# EAGLE library part STM32F401RE (library stm32f401re)
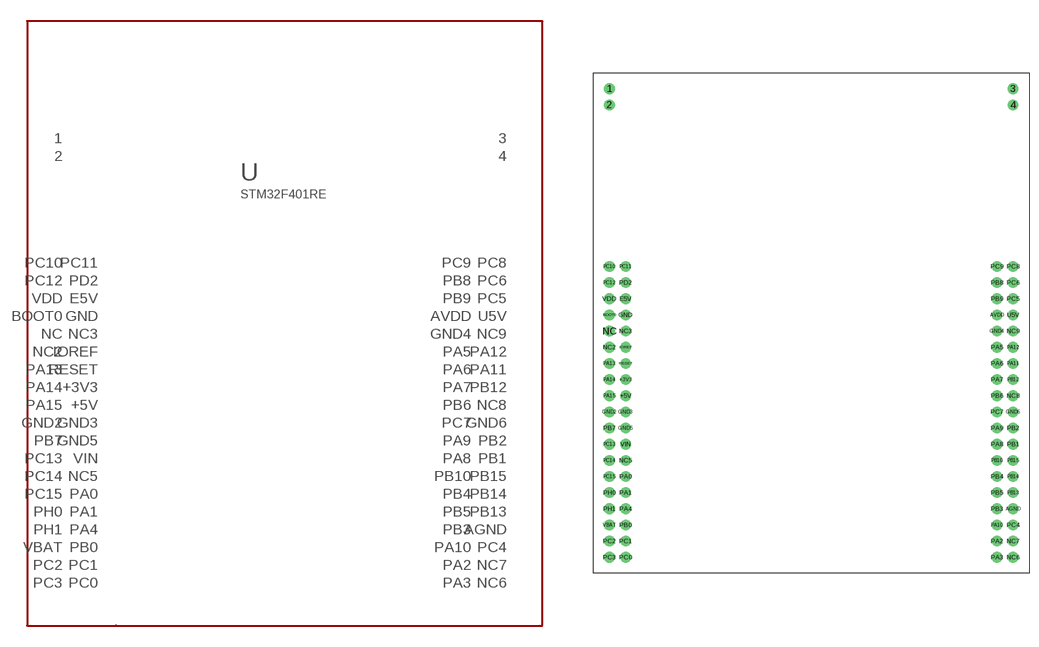
[diagram p0: symbol with the pads of STM32; footprint STM32]

Designator prefix -

## STM32F401RE  [STM32]
1  P$106
2  P$105
3  P$107
4  P$108
+3V3  P$30
+5V  P$29
AGND  P$58
AVDD  P$52
BOOT0  P$16
E5V  P$35
GND  P$34
GND2  P$10
GND3  P$28
GND4  P$51
GND5  P$27
GND6  P$64
IOREF  P$32
NC  P$15
NC2  P$14
NC3  P$33
NC5  P$25
NC6  P$55
NC7  P$56
NC8  P$65
NC9  P$69
PA0  P$24
PA1  P$23
PA2  P$38
PA3  P$37
PA4  P$22
PA5  P$50
PA6  P$49
PA7  P$48
PA8  P$44
PA9  P$45
PA10  P$39
PA11  P$67
PA12  P$68
PA13  P$13
PA14  P$12
PA15  P$11
PB0  P$21
PB1  P$62
PB2  P$63
PB3  P$40
PB4  P$42
PB5  P$41
PB6  P$47
PB7  P$9
PB8  P$54
PB9  P$53
PB10  P$43
PB12  P$66
PB13  P$59
PB14  P$60
PB15  P$61
PC0  P$19
PC1  P$20
PC2  P$2
PC3  P$1
PC4  P$57
PC5  P$71
PC6  P$72
PC7  P$46
PC8  P$76
PC9  P$75
PC10  P$73
PC11  P$74
PC12  P$18
PC13  P$8
PC14  P$7
PC15  P$6
PD2  P$36
PH0  P$5
PH1  P$4
RESET  P$31
U5V  P$70
VBAT  P$3
VDD  P$17
VIN  P$26

## Footprint STM32 (pad centres in mm)
drill 0.7 pad 1.676: 1 0,73.66; 2 0,71.12; 3 63.5,73.66; 4 63.5,71.12; +3V3 2.54,27.94; +5V 2.54,25.4; AGND 63.5,7.62; AVDD 60.96,38.1; BOOT0 0,38.1; E5V 2.54,40.64; GND 2.54,38.1; GND2 0,22.86; GND3 2.54,22.86; GND4 60.96,35.56; GND5 2.54,20.32; GND6 63.5,22.86; IOREF 2.54,33.02; NC 0,35.56; NC2 0,33.02; NC3 2.54,35.56; NC5 2.54,15.24; NC6 63.5,0; NC7 63.5,2.54; NC8 63.5,25.4; NC9 63.5,35.56; PA0 2.54,12.7; PA1 2.54,10.16; PA2 60.96,2.54; PA3 60.96,0; PA4 2.54,7.62; PA5 60.96,33.02; PA6 60.96,30.48; PA7 60.96,27.94; PA8 60.96,17.78; PA9 60.96,20.32; PA10 60.96,5.08; PA11 63.5,30.48; PA12 63.5,33.02; PA13 0,30.48; PA14 0,27.94; PA15 0,25.4; PB0 2.54,5.08; PB1 63.5,17.78; PB2 63.5,20.32; PB3 60.96,7.62; PB4 60.96,12.7; PB5 60.96,10.16; PB6 60.96,25.4; PB7 0,20.32; PB8 60.96,43.18; PB9 60.96,40.64; PB10 60.96,15.24; PB12 63.5,27.94; PB13 63.5,10.16; PB14 63.5,12.7; PB15 63.5,15.24; PC0 2.54,0; PC1 2.54,2.54; PC2 0,2.54; PC3 0,0; PC4 63.5,5.08; PC5 63.5,40.64; PC6 63.5,43.18; PC7 60.96,22.86; PC8 63.5,45.72; PC9 60.96,45.72; PC10 0,45.72; PC11 2.54,45.72; PC12 0,43.18; PC13 0,17.78; PC14 0,15.24; PC15 0,12.7; PD2 2.54,43.18; PH0 0,10.16; PH1 0,7.62; RESET 2.54,30.48; U5V 63.5,38.1; VBAT 0,5.08; VDD 0,40.64; VIN 2.54,17.78